# EAGLE library part MAX1566 (library maxim-2)
SIX-Channel, Digital Camera Power Supply
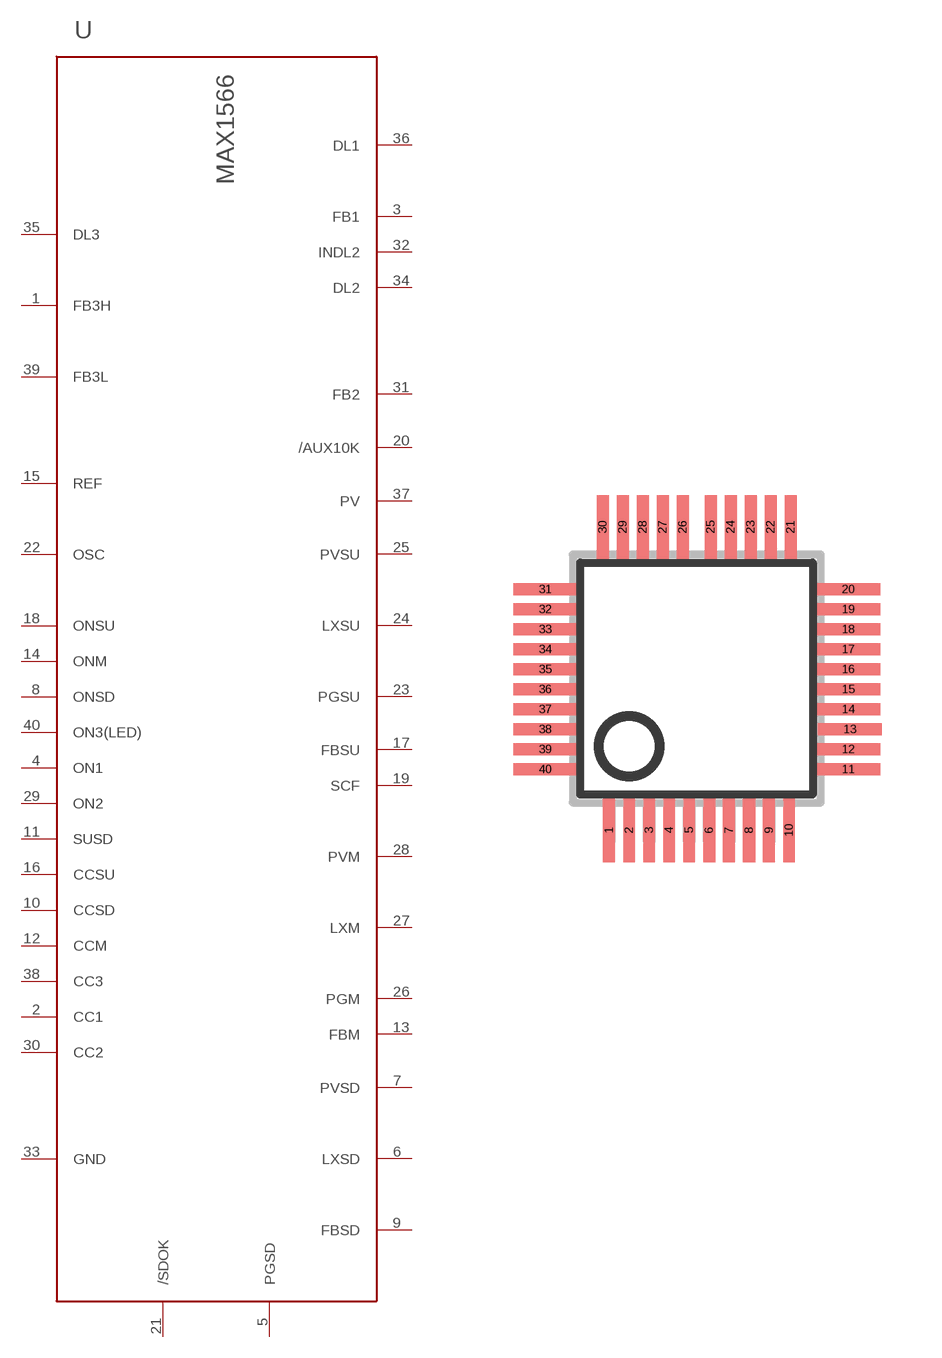
[diagram p0: symbol with the pads of TQFN40; footprint TQFN40]

Designator prefix -

## MAX1566  [TQFN40]
1  FB3H
2  CC1
3  FB1
4  ON1
5  PGSD
6  LXSD
7  PVSD
8  ONSD
9  FBSD
10  CCSD
11  SUSD
12  CCM
13  FBM
14  ONM
15  REF
16  CCSU
17  FBSU
18  ONSU
19  SCF
20  /AUX10K
21  /SDOK
22  OSC
23  PGSU
24  LXSU
25  PVSU
26  PGM
27  LXM
28  PVM
29  ON2
30  CC2
31  FB2
32  INDL2
33  GND
34  DL2
35  DL3
36  DL1
37  PV
38  CC3
39  FB3L
40  ON3(LED)

## Footprint TQFN40 (pad centres in mm)
40 THIN QFN 6mm X 6mm
smd 0.3 x 1.6: 1 -3.46,-3.79; 2 -2.96,-3.79; 3 -2.46,-3.79; 4 -1.96,-3.79; 5 -1.46,-3.79; 6 -0.96,-3.79; 7 -0.46,-3.79; 8 0.04,-3.79; 9 0.54,-3.79; 10 1.04,-3.79; 21 1.08,3.79; 22 0.58,3.79; 23 0.08,3.79; 24 -0.42,3.79; 25 -0.92,3.79; 26 -1.62,3.79; 27 -2.12,3.79; 28 -2.62,3.79; 29 -3.12,3.79; 30 -3.62,3.79
smd 1.6 x 0.3: 11 2.52,-2.27; 12 2.52,-1.77; 13 2.56,-1.27; 14 2.52,-0.77; 15 2.52,-0.27; 16 2.52,0.23; 17 2.52,0.73; 18 2.52,1.23; 19 2.52,1.73; 20 2.52,2.23; 31 -5.06,2.23; 32 -5.06,1.73; 33 -5.06,1.23; 34 -5.06,0.73; 35 -5.06,0.23; 36 -5.06,-0.27; 37 -5.06,-0.77; 38 -5.06,-1.27; 39 -5.06,-1.77; 40 -5.06,-2.27